# Altium footprint library PCB - TRIMMER CAP - KNOWLES JR.PcbLib: 1 footprints
Each footprint in its own frame and in the unit in brackets; x right, y up, seen from the top. Pads: shape width x height; smd on the part's side, far side on the other; paste and mask are expansions set on the pad; w line width, h text height; cw(c..) or ccw(c..) is an arc to the next point about the centre after c.
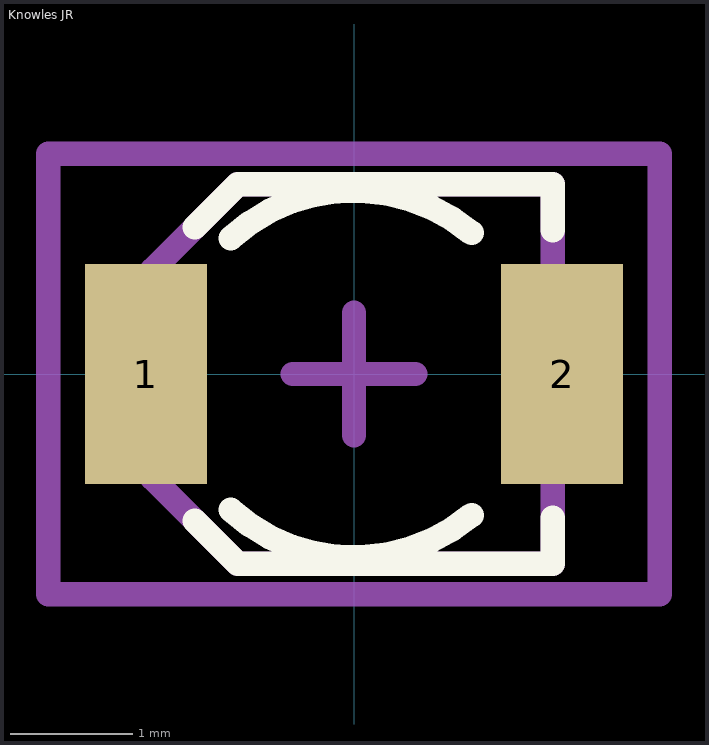
[diagram p0: the footprint, top view; thin cyan lines are the x and y axes]

## Knowles JR [mm] "CAP TRIMMER"
height 1.15
pads (2):
  rect 1x1.8 smd: 1(-1.7,0) 2(1.7,0)
Top Overlay:
  lines w0.2: -1.3,-1.2 -0.95,-1.55 1.625,-1.55 1.625,-1.175 ; -1.3,1.2 -0.95,1.55 1.625,1.55 1.625,1.175 ; -1.009,-1.11 ccw(c0,0) 0.96,-1.152 ; -1.009,1.11 cw(c0,0) 0.96,1.152
Top Assembly:
  lines w0.2: -0.5,0 0.5,0 ; 0,-0.5 0,0.5 ; -1.65,-0.85 -1.65,0.85 -0.95,1.55 1.625,1.55 1.625,-1.55 -0.95,-1.55 -1.65,-0.85
Top Courtyard (Mech15):
  lines w0.2: -2.5,-1.8 -2.5,1.8 2.5,1.8 2.5,-1.8 -2.5,-1.8
3D body "Knowles JR.step": height 1.15, standoff -0.01, extent -1.65,-1.55 1.8,1.55